# Altium footprint library QuadrupedPcbLib.PcbLib: 4 footprints
Each footprint in its own frame and in the unit in brackets; x right, y up, seen from the top. Pads: shape width x height; smd on the part's side, far side on the other; paste and mask are expansions set on the pad; w line width, h text height; cw(c..) or ccw(c..) is an arc to the next point about the centre after c.
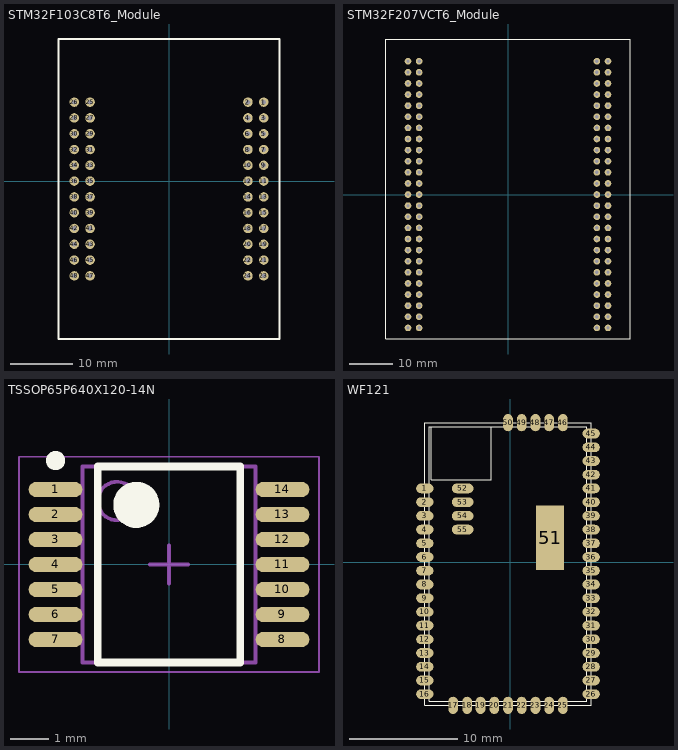
[diagram p0: the footprints below, top view; thin cyan lines are the x and y axes]

## STM32F103C8T6_Module [mil]
pads (48):
  round 60 hole 30: 1(600,500) 2(500,500) 3(600,400) 4(500,400) 5(600,300) 6(500,300) 7(600,200) 8(500,200) 9(600,100) 10(500,100) 11(600,0) 12(500,0) 13(600,-100) 14(500,-100) 15(600,-200) 16(500,-200) 17(600,-300) 18(500,-300) 19(600,-400) 20(500,-400) 21(600,-500) 22(500,-500) 23(600,-600) 24(500,-600) 25(-500,500) 26(-600,500) 27(-500,400) 28(-600,400) 29(-500,300) 30(-600,300) 31(-500,200) 32(-600,200) 33(-500,100) 34(-600,100) 35(-500,0) 36(-600,0) 37(-500,-100) 38(-600,-100) 39(-500,-200) 40(-600,-200) 41(-500,-300) 42(-600,-300) 43(-500,-400) 44(-600,-400) 45(-500,-500) 46(-600,-500) 47(-500,-600) 48(-600,-600)
Top Overlay:
  lines w10: -700,-1000 -700,900 700,900 700,-1000 -700,-1000

## STM32F207VCT6_Module [mil]
pads (100):
  round 60 hole 30: 1(-900,1200) 2(-800,1200) 3(-900,1100) 4(-800,1100) 5(-900,1000) 6(-800,1000) 7(-900,900) 8(-800,900) 9(-900,800) 10(-800,800) 11(-900,700) 12(-800,700) 13(-900,600) 14(-800,600) 15(-900,500) 16(-800,500) 17(-900,400) 18(-800,400) 19(-900,300) 20(-800,300) 21(-900,200) 22(-800,200) 23(-900,100) 24(-800,100) 25(-900,0) 26(-800,0) 27(-900,-100) 28(-800,-100) 29(-900,-200) 30(-800,-200) 31(-900,-300) 32(-800,-300) 33(-900,-400) 34(-800,-400) 35(-900,-500) 36(-800,-500) 37(-900,-600) 38(-800,-600) 39(-900,-700) 40(-800,-700) 41(-900,-800) 42(-800,-800) 43(-900,-900) 44(-800,-900) 45(-900,-1000) 46(-800,-1000) 47(-900,-1100) 48(-800,-1100) 49(-900,-1200) 50(-800,-1200) 51(800,1200) 52(900,1200) 53(800,1100) 54(900,1100) 55(800,1000) 56(900,1000) 57(800,900) 58(900,900) 59(800,800) 60(900,800) 61(800,700) 62(900,700) 63(800,600) 64(900,600) 65(800,500) 66(900,500) 67(800,400) 68(900,400) 69(800,300) 70(900,300) 71(800,200) 72(900,200) 73(800,100) 74(900,100) 75(800,0) 76(900,0) 77(800,-100) 78(900,-100) 79(800,-200) 80(900,-200) 81(800,-300) 82(900,-300) 83(800,-400) 84(900,-400) 85(800,-500) 86(900,-500) 87(800,-600) 88(900,-600) 89(800,-700) 90(900,-700) 91(800,-800) 92(900,-800) 93(800,-900) 94(900,-900) 95(800,-1000) 96(900,-1000) 97(800,-1100) 98(900,-1100) 99(800,-1200) 100(900,-1200)
Top Overlay:
  lines w10: -1100,-1300 1100,-1300 1100,1400 -1100,1400 -1100,-1300

## TSSOP65P640X120-14N [mm] "TSSOP, 14-Leads, Body 5.00x4.40mm, Pitch 0.65mm, IPC Medium Density"
height 1.2
pads (14):
  oval 1.4x0.4 smd: 1(-2.95,1.95) 2(-2.95,1.3) 3(-2.95,0.65) 4(-2.95,0) 5(-2.95,-0.65) 6(-2.95,-1.3) 7(-2.95,-1.95) 8(2.95,-1.95) 9(2.95,-1.3) 10(2.95,-0.65) 11(2.95,0) 12(2.95,0.65) 13(2.95,1.3) 14(2.95,1.95)
Top Overlay:
  circle w0.6: c-0.85,1.55 r0.3
  circle w0.25: c-2.95,2.7 r0.125
  lines w0.2: -1.85,-2.55 1.85,-2.55 1.85,2.55 -1.85,2.55 -1.85,-2.55
Mechanical 13:
  circle w0.1: c-1.35,1.65 r0.5
  lines w0.1: -2.25,-2.55 2.25,-2.55 2.25,2.55 -2.25,2.55 -2.25,-2.55
Mechanical 15:
  lines w0.05: -3.9,-2.8 3.9,-2.8 3.9,2.8 -3.9,2.8 -3.9,-2.8
  lines w0.1: -0.5,0 0.5,0 ; 0,-0.5 0,0.5
3D body: height 1.2, standoff 0.15, extent -2.25,-2.55 2.25,2.55

## WF121 [mm]
height 4
pads (55):
  oval 1.6x0.9 smd mask+0.05: 1(-7.888,6.834) 2(-7.888,5.564) 3(-7.888,4.294) 4(-7.888,3.024) 5(-7.888,1.754) 6(-7.888,0.484) 7(-7.888,-0.786) 8(-7.888,-2.056) 9(-7.888,-3.326) 10(-7.888,-4.596) 11(-7.888,-5.866) 12(-7.888,-7.136) 13(-7.888,-8.406) 14(-7.888,-9.676) 15(-7.888,-10.946) 16(-7.888,-12.216) 26(7.512,-12.216) 27(7.512,-10.946) 28(7.512,-9.676) 29(7.512,-8.406) 30(7.512,-7.136) 31(7.512,-5.866) 32(7.512,-4.596) 33(7.512,-3.326) 34(7.512,-2.056) 35(7.512,-0.786) 36(7.512,0.484) 37(7.512,1.754) 38(7.512,3.024) 39(7.512,4.294) 40(7.512,5.564) 41(7.512,6.834) 42(7.512,8.104) 43(7.512,9.374) 44(7.512,10.644) 45(7.512,11.914)
  oval 0.9x1.6 smd mask+0.05: 17(-5.268,-13.251) 18(-3.968,-13.251) 19(-2.728,-13.251) 20(-1.458,-13.251) 21(-0.188,-13.251) 22(1.082,-13.251) 23(2.352,-13.251) 24(3.622,-13.251) 25(4.892,-13.251) 46(4.892,12.924) 47(3.622,12.924) 48(2.352,12.924) 49(1.082,12.924) 50(-0.188,12.924)
  rect 2.6x6 smd mask+0.05: 51(3.712,2.274)
  oval 2x0.9 smd mask+0.05: 52(-4.388,6.834) 53(-4.388,5.564) 54(-4.388,4.294) 55(-4.388,3.024)
Top Overlay:
  lines w0.1: -7.888,-13.251 7.512,-13.251 7.512,12.924 -7.888,12.924 -7.888,-13.251 ; -7.488,-12.851 7.112,-12.851 7.112,12.524 -7.488,12.524 -7.488,-12.851 ; -7.288,7.624 -1.738,7.624 -1.738,12.524 -7.288,12.524 -7.288,7.624